# Altium schematic symbol library TSW-108-07-G-S-LL.SchLib: 1 symbol
Pins are listed as number, name and electrical type; pins without a type are passive.

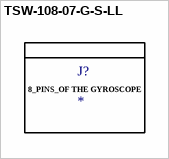
[diagram p0: symbol TSW-108-07-G-S-LL]

## TSW-108-07-G-S-LL
designator J?
MP: TSW-108-07-G-S-LL; Availability: Unavailable; Value: *; Price: None; Package: None
footprint SAMTEC_TSW-108-07-G-S-LL
text: 8_PINS_OF THE GYROSCOPE